# Altium schematic symbol library micromouse_Lib.SchLib: 7 symbols
Pins are listed as number, name and electrical type; pins without a type are passive.

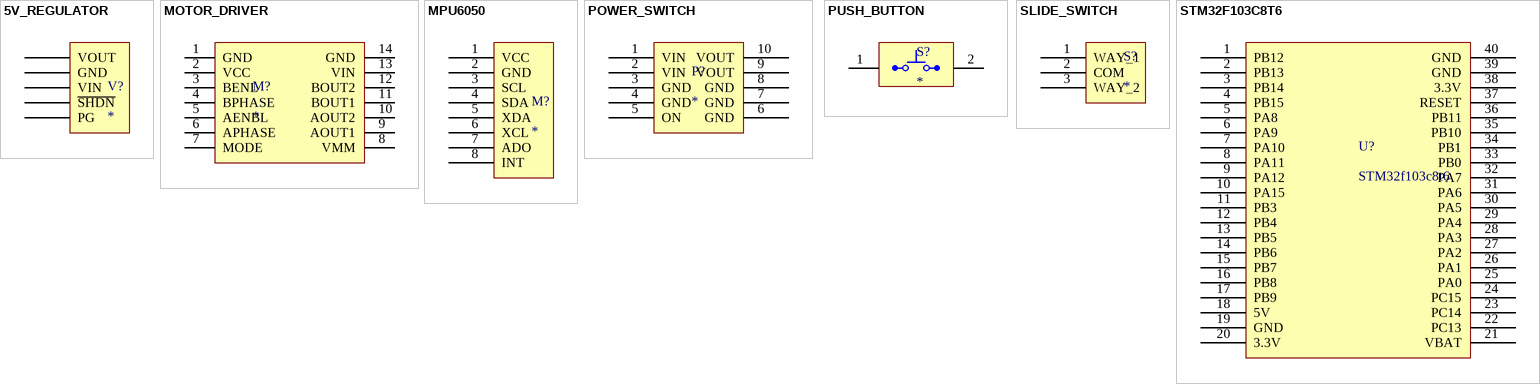
[diagram p0: symbols 5V_REGULATOR to STM32F103C8T6]

## 5V_REGULATOR
designator V?
footprint 5V_REGULATOR
pins: 1 VOUT, 2 GND, 3 VIN, 4 ~{SHDN}, 5 PG

## MOTOR_DRIVER
designator M?
footprint MOTOR_DRIVER
pins: 1 GND, 2 VCC, 3 BENL, 4 BPHASE, 5 AENBL, 6 APHASE, 7 MODE, 8 VMM, 9 AOUT1, 10 AOUT2, 11 BOUT1, 12 BOUT2, 13 VIN, 14 GND

## MPU6050
designator M?
footprint MPU6050
pins: 1 VCC, 2 GND, 3 SCL, 4 SDA, 5 XDA, 6 XCL, 7 ADO, 8 INT

## POWER_SWITCH
designator P?
footprint POWER_SWITCH
pins: 1 VIN, 2 VIN, 3 GND, 4 GND, 5 ON, 6 GND, 7 GND, 8 GND, 9 VOUT, 10 VOUT

## PUSH_BUTTON
designator S?
footprint PUSH_BUTTON
pins: 1, 2

## SLIDE_SWITCH
designator S?
footprint SLIDE_SWITCH
pins: 1 WAY_1, 2 COM, 3 WAY_2

## STM32F103C8T6
designator U?, comment STM32f103c8t6
footprint STM32F103
pins: 1 PB12, 2 PB13, 3 PB14, 4 PB15, 5 PA8, 6 PA9, 7 PA10, 8 PA11, 9 PA12, 10 PA15, 11 PB3, 12 PB4, 13 PB5, 14 PB6, 15 PB7, 16 PB8, 17 PB9, 18 5V, 19 GND, 20 3.3V, 21 VBAT, 22 PC13, 23 PC14, 24 PC15, 25 PA0, 26 PA1, 27 PA2, 28 PA3, 29 PA4, 30 PA5, 31 PA6, 32 PA7, 33 PB0, 34 PB1, 35 PB10, 36 PB11, 37 RESET, 38 3.3V, 39 GND, 40 GND